# Altium schematic symbol library ABM3-8P000MHZ-D2Y-T.SchLib: 2 symbols
Pins are listed as number, name and electrical type; pins without a type are passive.

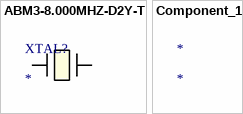
[diagram p0: symbols ABM3-8.000MHZ-D2Y-T to Component_1]

## ABM3-8.000MHZ-D2Y-T
designator XTAL?
No Description Available; Mfr_Name: Abracon
footprint XTAL_ABM3-8.000MHZ-D2Y-T_ABR
pins: 1, 2

## Component_1
designator *